# EAGLE library part 74LVC32ABQ,115 (library 74LVC32ABQ_115)
74LVC32A - Quad 2-input OR gate@en-us Source: Datasheet <https://assets.nexperia.com/documents/data-sheet/74LVC32A.pdf>
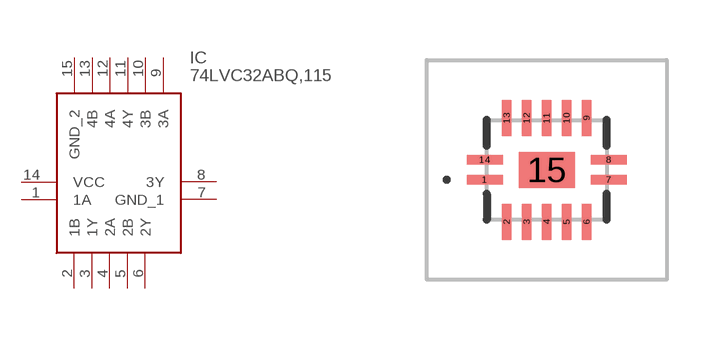
[diagram p0: symbol with the pads of 74LVC32ABQ115; footprint 74LVC32ABQ115]

Designator prefix IC

## 74LVC32ABQ,115 (Description: 74LVC32A - Quad 2-input OR gate@en-us; Height: 1mm; Manufacturer_Name: Nexperia; Manufacturer_Part_Number: 74LVC32ABQ,115; Mouser_Part_Number: 771-74LVC32ABQ-G; Mouser_Price-Stock: https://www.mouser.co.uk/ProductDetail/Nexperia/74LVC32ABQ115?qs=me8TqzrmIYVhxXge93dmrA%3D%3D)  [74LVC32ABQ115]
1  1A
2  1B
3  1Y
4  2A
5  2B
6  2Y
7  GND_1
8  3Y
9  3A
10  3B
11  4Y
12  4A
13  4B
14  VCC
15  GND_2

## Footprint 74LVC32ABQ115 (pad centres in mm)
SOT762-1_2022-2
smd 0.9 x 0.24: 1 -1.55,-0.25; 7 1.55,-0.25; 8 1.55,0.25; 14 -1.55,0.25
smd 0.24 x 0.9: 2 -1,-1.3; 3 -0.5,-1.3; 4 0,-1.3; 5 0.5,-1.3; 6 1,-1.3; 9 1,1.3; 10 0.5,1.3; 11 0,1.3; 12 -0.5,1.3; 13 -1,1.3
smd 1.4 x 0.9: 15 0,0